# EAGLE library part MC14541BDR2G (library on-semiconductor-01)
Programmable Timer
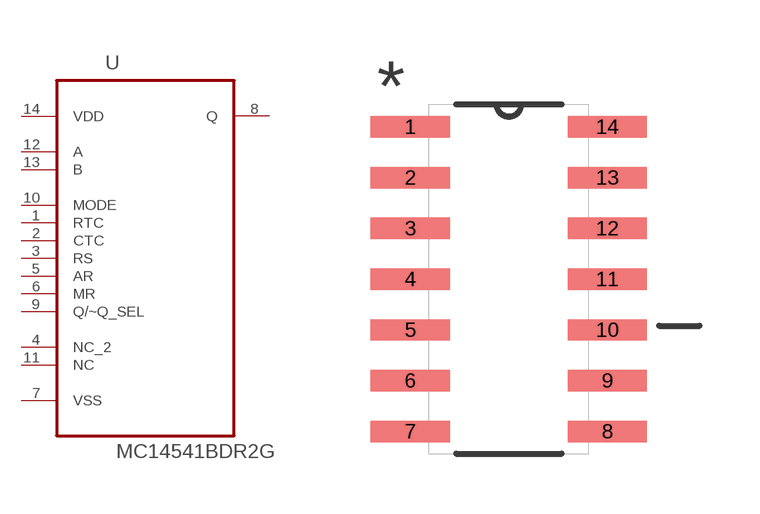
[diagram p296: symbol with the pads of SOIC127P600X175-14N; footprint SOIC127P600X175-14N]

Designator prefix U

## MC14541BDR2G (MPN: MC14541BDR2G; OC_FARNELL: 1365197; OC_NEWARK: 84K8755; PACKAGE: SOIC-14; SUPPLIER: ON SEMICONDUCTOR)  [SOIC127P600X175-14N]
1  RTC  in
2  CTC  in
3  RS  in
4  NC_2  nc
5  AR  in
6  MR  in
7  VSS  pas
8  Q  out
9  Q/~Q_SEL  in
10  MODE  in
11  NC  nc
12  A  in
13  B  in
14  VDD  pwr

## Footprint SOIC127P600X175-14N (pad centres in mm)
smd 1.981 x 0.533: 1 -2.464,3.81; 2 -2.464,2.54; 3 -2.464,1.27; 4 -2.464,0; 5 -2.464,-1.27; 6 -2.464,-2.54; 7 -2.464,-3.81; 8 2.464,-3.81; 9 2.464,-2.54; 10 2.464,-1.27; 11 2.464,0; 12 2.464,1.27; 13 2.464,2.54; 14 2.464,3.81